# Altium footprint library MiroCard.PcbLib: 34 footprints (part 3 of 3)
Each footprint in its own frame and in the unit in brackets; x right, y up, seen from the top. Pads: shape width x height; smd on the part's side, far side on the other; paste and mask are expansions set on the pad; w line width, h text height; cw(c..) or ccw(c..) is an arc to the next point about the centre after c.
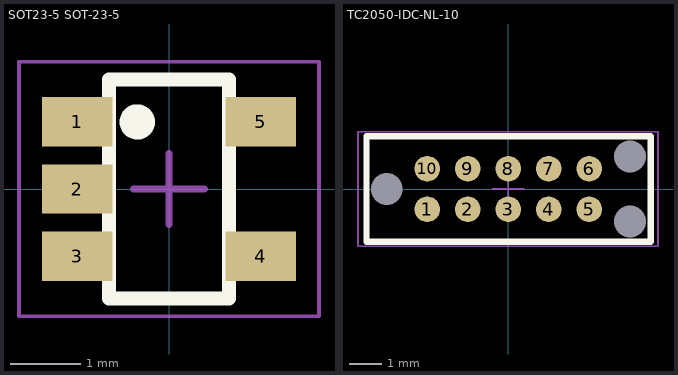
[diagram p2: the footprints below, top view; thin cyan lines are the x and y axes]

## SOT23-5 SOT-23-5 [mm]
pads (5):
  rect 1x0.7 smd: 1(-1.3,0.95) 2(-1.3,0) 3(-1.3,-0.95) 4(1.3,-0.95) 5(1.3,0.95)
Top Overlay:
  circle w0.25: c-0.45,0.95 r0.125
  lines w0.2: -0.85,-1.55 0.85,-1.55 0.85,1.55 -0.85,1.55 -0.85,-1.55
Mechanical 13:
  lines w0.1: -0.85,-1.55 0.85,-1.55 0.85,1.55 -0.85,1.55 -0.85,-1.55
Mechanical 15:
  lines w0.05: -2.125,-1.8 -2.125,1.8 2.125,1.8 2.125,-1.8 -2.125,-1.8
  lines w0.1: -0.5,0 0.5,0 ; 0,-0.5 0,0.5
3D body: height 1.45, standoff 0.1, extent -0.85,-1.55 0.85,1.55

## TC2050-IDC-NL-10 [mm]
pads (13):
  round 0 hole 1 unplated: 0(-3.81,0) 0(3.81,-1.016) 0(3.81,1.016)
  round 0.8 smd paste-0.8: 1(-2.54,-0.635) 2(-1.27,-0.635) 3(0,-0.635) 4(1.265,-0.635) 5(2.535,-0.635) 6(2.535,0.635) 7(1.265,0.635) 8(0,0.635) 9(-1.27,0.635) 10(-2.54,0.635)
Top Overlay:
  circle w0.254: c-2.54,-0.635 r0.214
  lines w0.2: -4.445,-1.651 4.465,-1.651 4.465,1.651 -4.445,1.651 -4.445,-1.651
Mechanical 15:
  lines w0.05: -0.5,0 0.5,0 ; 0,-0.5 0,0.5 ; -4.71,-1.8 -4.71,1.8 4.69,1.8 4.69,-1.8 -4.71,-1.8